# Altium integrated library NSC Analog.IntLib: 143 symbols (part 2 of 4)
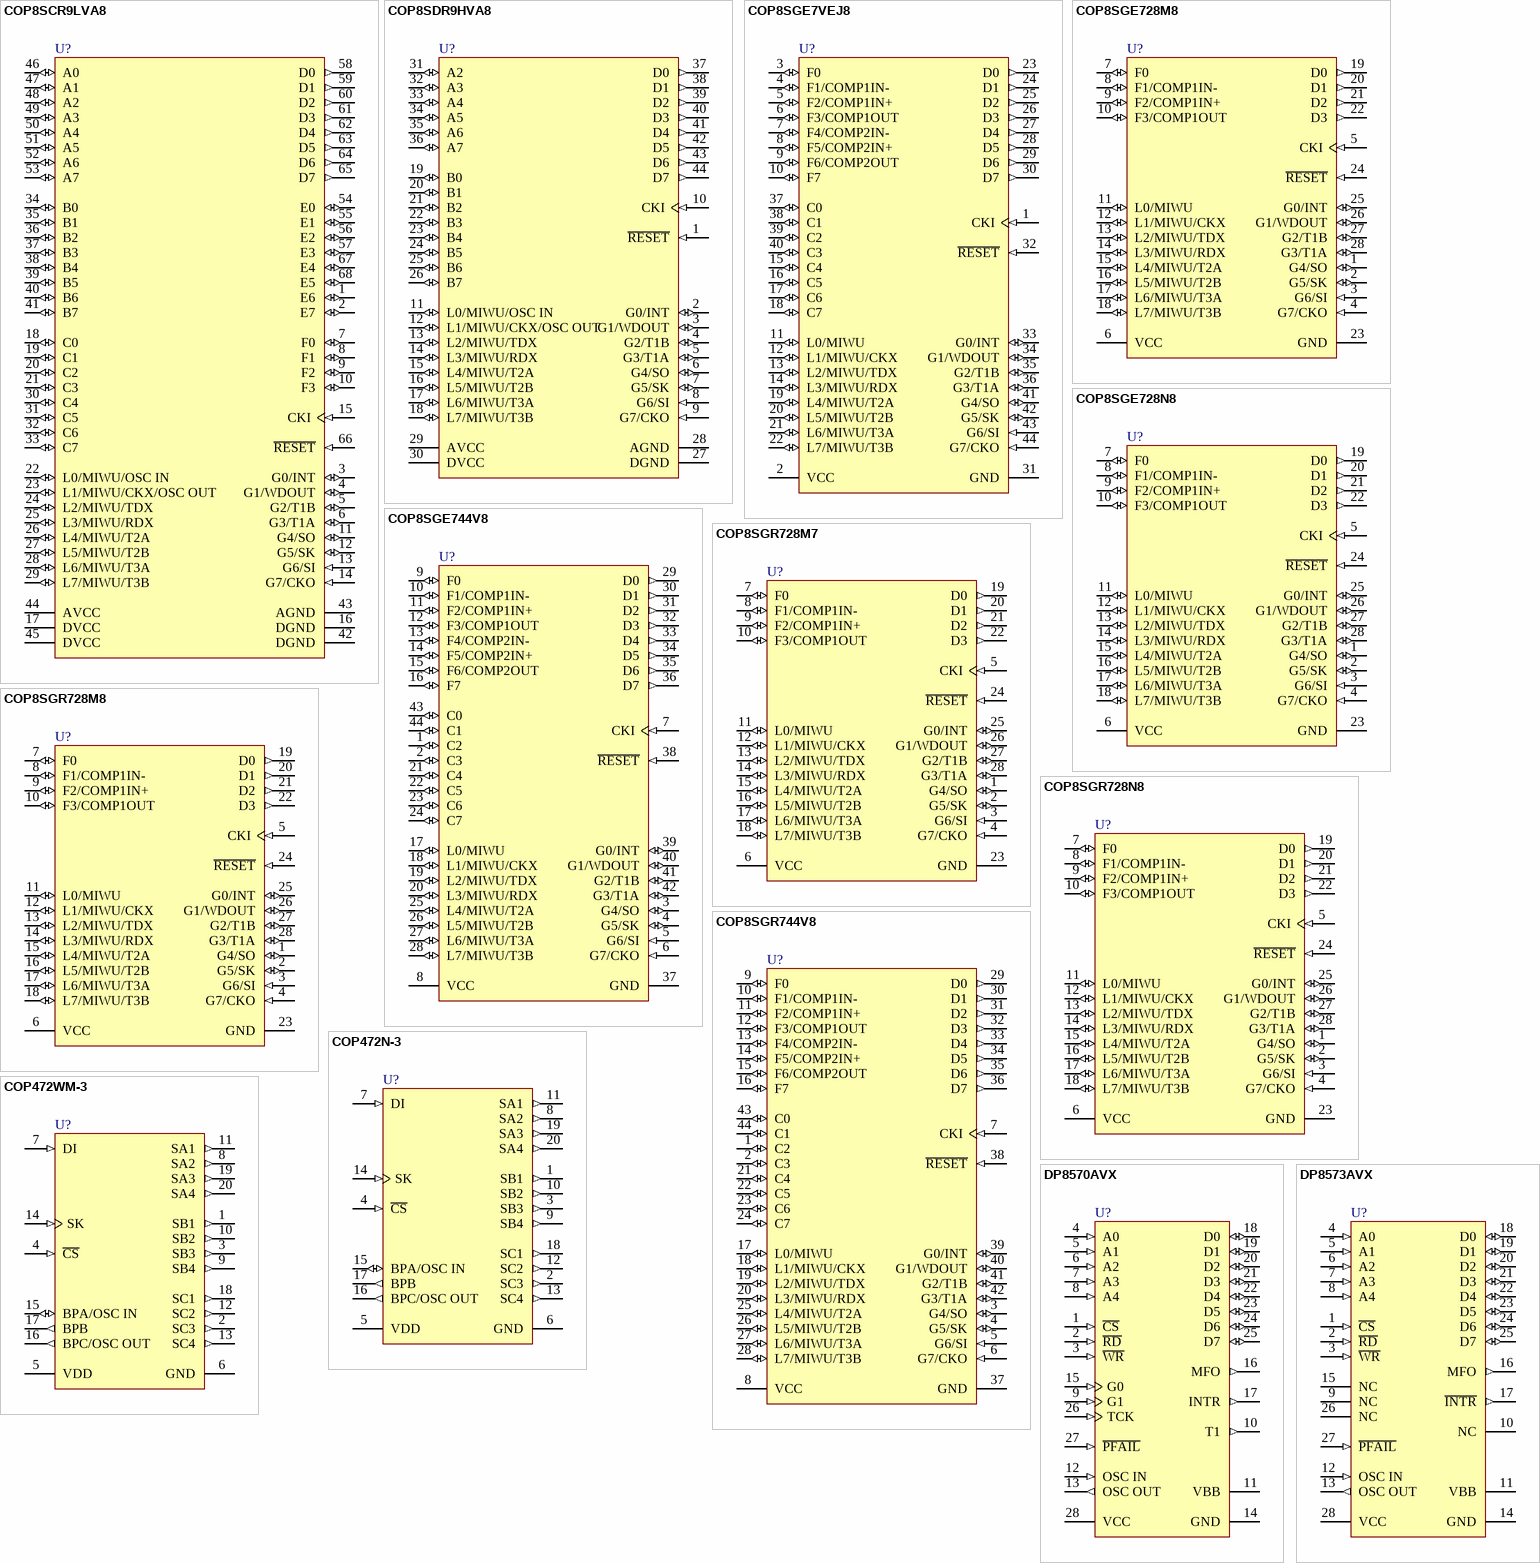
[diagram p8: symbols COP8SCR9LVA8 to DP8573AVX]

## COP8SGR744V8
designator U?
8-Bit CMOS ROM Based and OTP Microcontrollers with 8k to 32k Memory, Two Comparators and USART; PartNumber: COP8SGR744V8; Manufacturer: National Semiconductor; CompType: Analog IC; PackageTopMarking: NSUZXYYTTE#*COP8SGR744V8; PowerWise: N; Published: 4-Dec-2008; DatasheetVersion: Oct-2001; PackageVersion: revK, Dec-1993; PackageReference: V44A; Publisher: Altium Limited; PackageDescription: Plastic Chip Carrier, Sq, .050in Pitch, 44 Lead; PinCount: 44; DigiKeyPartNumber: COP8SGR744V8-ND; Code_IPC: PLCC-44; ComponentLink1Description: COP8SGR7 Datasheet; ComponentLink1URL: http://www.national.com/ds.cgi/CO/COP8SGR7.pdf; ComponentLink2Description: COP8SGR7 Web Page; ComponentLink2URL: http://www.national.com/pf/CO/COP8SGR7.html; ComponentLink3Description: V44A package page; ComponentLink3URL: http://www.national.com/packaging/folders/v44a.html
footprint V44A_N (Leaded Chip Carrier, 44-Leads, Body 16.6x16.6mm, Pitch 1.27mm, IPC Medium Density)
footprint V44A_L (Leaded Chip Carrier, 44-Leads, Body 16.6x16.6mm, Pitch 1.27mm, IPC High Density)
footprint V44A_M (Leaded Chip Carrier, 44-Leads, Body 16.6x16.6mm, Pitch 1.27mm, IPC Low Density)
pins: 1 C2 (io), 2 C3 (io), 3 G4/SO (io), 4 G5/SK (io), 5 G6/SI (in), 6 G7/CKO (in), 7 CKI (in), 8 VCC (power), 9 F0 (io), 10 F1/COMP1IN- (io), 11 F2/COMP1IN+ (io), 12 F3/COMP1OUT (io), 13 F4/COMP2IN- (io), 14 F5/COMP2IN+ (io), 15 F6/COMP2OUT (io), 16 F7 (io), 17 L0/MIWU (io), 18 L1/MIWU/CKX (io), 19 L2/MIWU/TDX (io), 20 L3/MIWU/RDX (io), 21 C4 (io), 22 C5 (io), 23 C6 (io), 24 C7 (io), 25 L4/MIWU/T2A (io), 26 L5/MIWU/T2B (io), 27 L6/MIWU/T3A (io), 28 L7/MIWU/T3B (io), 29 D0 (out), 30 D1 (out), 31 D2 (out), 32 D3 (out), 33 D4 (out), 34 D5 (out), 35 D6 (out), 36 D7 (out), 37 GND (power), 38 ~{RESET} (in), 39 G0/INT (io), 40 G1/WDOUT (io), 41 G2/T1B (io), 42 G3/T1A (io), 43 C0 (io), 44 C1 (io)

## COP472N-3
designator U?
Liquid Crystal Display Controller; PartNumber: COP472N-3; Manufacturer: National Semiconductor; CompType: Analog IC; PackageTopMarking: NSUZXYYTTE#*COP472N-3; PowerWise: N; Published: 4-Dec-2008; DatasheetVersion: Jul-1995; PackageVersion: revG, Nov-1984; PackageReference: N20A; Publisher: Altium Limited; PackageDescription: Molded Dip (N) 20 Lead; PinCount: 20; DigiKeyPartNumber: COP472N-3-ND; Code_JEDEC: MS-001-AD; ComponentLink1Description: COP472-3 Datasheet; ComponentLink1URL: http://www.national.com/ds.cgi/CO/COP472-3.pdf; ComponentLink2Description: COP472-3 Web Page; ComponentLink2URL: http://www.national.com/pf/CO/COP472-3.html; ComponentLink3Description: N20A package page; ComponentLink3URL: http://www.national.com/packaging/folders/n20a.html
footprint N20A (DIP, 20-Leads, Row Spacing 7.62mm, Pitch 2.54mm, Body 26.07x6.6mm)
pins: 1 SB1 (out), 2 SC3 (out), 3 SB3 (out), 4 ~{CS} (in), 5 VDD (power), 6 GND (power), 7 DI (in), 8 SA2 (out), 9 SB4 (out), 10 SB2 (out), 11 SA1 (out), 12 SC2 (out), 13 SC4 (out), 14 SK (in), 15 BPA/OSC IN (io), 16 BPC/OSC OUT (out), 17 BPB (out), 18 SC1 (out), 19 SA3 (out), 20 SA4 (out)

## COP472WM-3
designator U?
Liquid Crystal Display Controller; PartNumber: COP472WM-3; Manufacturer: National Semiconductor; CompType: Analog IC; PackageTopMarking: NSUZXYTT*COP472WM-3; PowerWise: N; Published: 4-Dec-2008; DatasheetVersion: Jul-1995; PackageVersion: revG, Jan-1996; PackageReference: M20B; Publisher: Altium Limited; PackageDescription: Molded Package, S0, .300in Wide, 20 Lead; PinCount: 20; DigiKeyPartNumber: COP472WM-3-ND; Code_JEDEC: MS-013-AC; Code_IPC: SOIC127P1030-20; ComponentLink1Description: COP472-3 Datasheet; ComponentLink1URL: http://www.national.com/ds.cgi/CO/COP472-3.pdf; ComponentLink2Description: COP472-3 Web Page; ComponentLink2URL: http://www.national.com/pf/CO/COP472-3.html; ComponentLink3Description: M20B package page; ComponentLink3URL: http://www.national.com/packaging/folders/m20b.html
footprint M20B_N (SOIC, 20-Leads, Body 12.8x7.5mm, Pitch 1.27mm, IPC Medium Density)
footprint M20B_L (SOIC, 20-Leads, Body 12.8x7.5mm, Pitch 1.27mm, IPC High Density)
footprint M20B_M (SOIC, 20-Leads, Body 12.8x7.5mm, Pitch 1.27mm, IPC Low Density)
pins: 1 SB1 (out), 2 SC3 (out), 3 SB3 (out), 4 ~{CS} (in), 5 VDD (power), 6 GND (power), 7 DI (in), 8 SA2 (out), 9 SB4 (out), 10 SB2 (out), 11 SA1 (out), 12 SC2 (out), 13 SC4 (out), 14 SK (in), 15 BPA/OSC IN (io), 16 BPC/OSC OUT (out), 17 BPB (out), 18 SC1 (out), 19 SA3 (out), 20 SA4 (out)

## DP8570AVX
designator U?
Timer Clock Peripheral (TCP); PartNumber: DP8570AVX; Manufacturer: National Semiconductor; CompType: Analog IC; PackageTopMarking: NSUZXYYTT*DP8570AV; Published: 4-Dec-2008; DatasheetVersion: May-1993; PackageVersion: revK, Dec-1993; PackageReference: V28A; Publisher: Altium Limited; PackageDescription: Plastic Chip Carrier, Sq., .050in Pitch, 28 Lead; PinCount: 28; DigiKeyPartNumber: DP8570AVX-ND; Code_IPC: PLCC-28; ComponentLink1Description: DP8570A Datasheet; ComponentLink1URL: http://www.national.com/ds.cgi/DP/DP8570A.pdf; ComponentLink2Description: DP8570A Web Page; ComponentLink2URL: http://www.national.com/pf/DP/DP8570A.html; ComponentLink3Description: V28A package page; ComponentLink3URL: http://www.national.com/packaging/folders/v28a.html
footprint V28A_N (Leaded Chip Carrier, 28-Leads, Body 11.5x11.5mm, Pitch 1.27mm, IPC Medium Density)
footprint V28A_L (Leaded Chip Carrier, 28-Leads, Body 11.5x11.5mm, Pitch 1.27mm, IPC High Density)
footprint V28A_M (Leaded Chip Carrier, 28-Leads, Body 11.5x11.5mm, Pitch 1.27mm, IPC Low Density)
pins: 1 ~{CS} (in), 2 ~{RD} (in), 3 ~{WR} (in), 4 A0 (in), 5 A1 (in), 6 A2 (in), 7 A3 (in), 8 A4 (in), 9 G1 (in), 10 T1 (out), 11 VBB (power), 12 OSC IN (in), 13 OSC OUT (out), 14 GND (power), 15 G0 (in), 16 MFO (out), 17 INTR (out), 18 D0 (io), 19 D1 (io), 20 D2 (io), 21 D3 (io), 22 D4 (io), 23 D5 (io), 24 D6 (io), 25 D7 (io), 26 TCK (in), 27 ~{PFAIL} (in), 28 VCC (power)

## DP8573AVX
designator U?
Real Time Clock (RTC); PartNumber: DP8573AVX; Manufacturer: National Semiconductor; CompType: Analog IC; PackageTopMarking: NSUZXYYTT*DP8573AV; Published: 4-Dec-2008; DatasheetVersion: May-1993; PackageVersion: revK, Dec-1993; PackageReference: V28A; Publisher: Altium Limited; PackageDescription: Plastic Chip Carrier, Sq., .050in Pitch, 28 Lead; PinCount: 28; DigiKeyPartNumber: DP8573AVX-ND; Code_IPC: PLCC-28; ComponentLink1Description: DP8573A Datasheet; ComponentLink1URL: http://www.national.com/ds.cgi/DP/DP8573A.pdf; ComponentLink2Description: DP8573A Web Page; ComponentLink2URL: http://www.national.com/pf/DP/DP8573A.html; ComponentLink3Description: V28A package page; ComponentLink3URL: http://www.national.com/packaging/folders/v28a.html
footprint V28A_N (Leaded Chip Carrier, 28-Leads, Body 11.5x11.5mm, Pitch 1.27mm, IPC Medium Density)
footprint V28A_L (Leaded Chip Carrier, 28-Leads, Body 11.5x11.5mm, Pitch 1.27mm, IPC High Density)
footprint V28A_M (Leaded Chip Carrier, 28-Leads, Body 11.5x11.5mm, Pitch 1.27mm, IPC Low Density)
pins: 1 ~{CS} (in), 2 ~{RD} (in), 3 ~{WR} (in), 4 A0 (in), 5 A1 (in), 6 A2 (in), 7 A3 (in), 8 A4 (in), 9 NC, 10 NC, 11 VBB (power), 12 OSC IN (in), 13 OSC OUT (out), 14 GND (power), 15 NC, 16 MFO (out), 17 ~{INTR} (out), 18 D0 (io), 19 D1 (io), 20 D2 (io), 21 D3 (io), 22 D4 (io), 23 D5 (io), 24 D6 (io), 25 D7 (io), 26 NC, 27 ~{PFAIL} (in), 28 VCC (power)

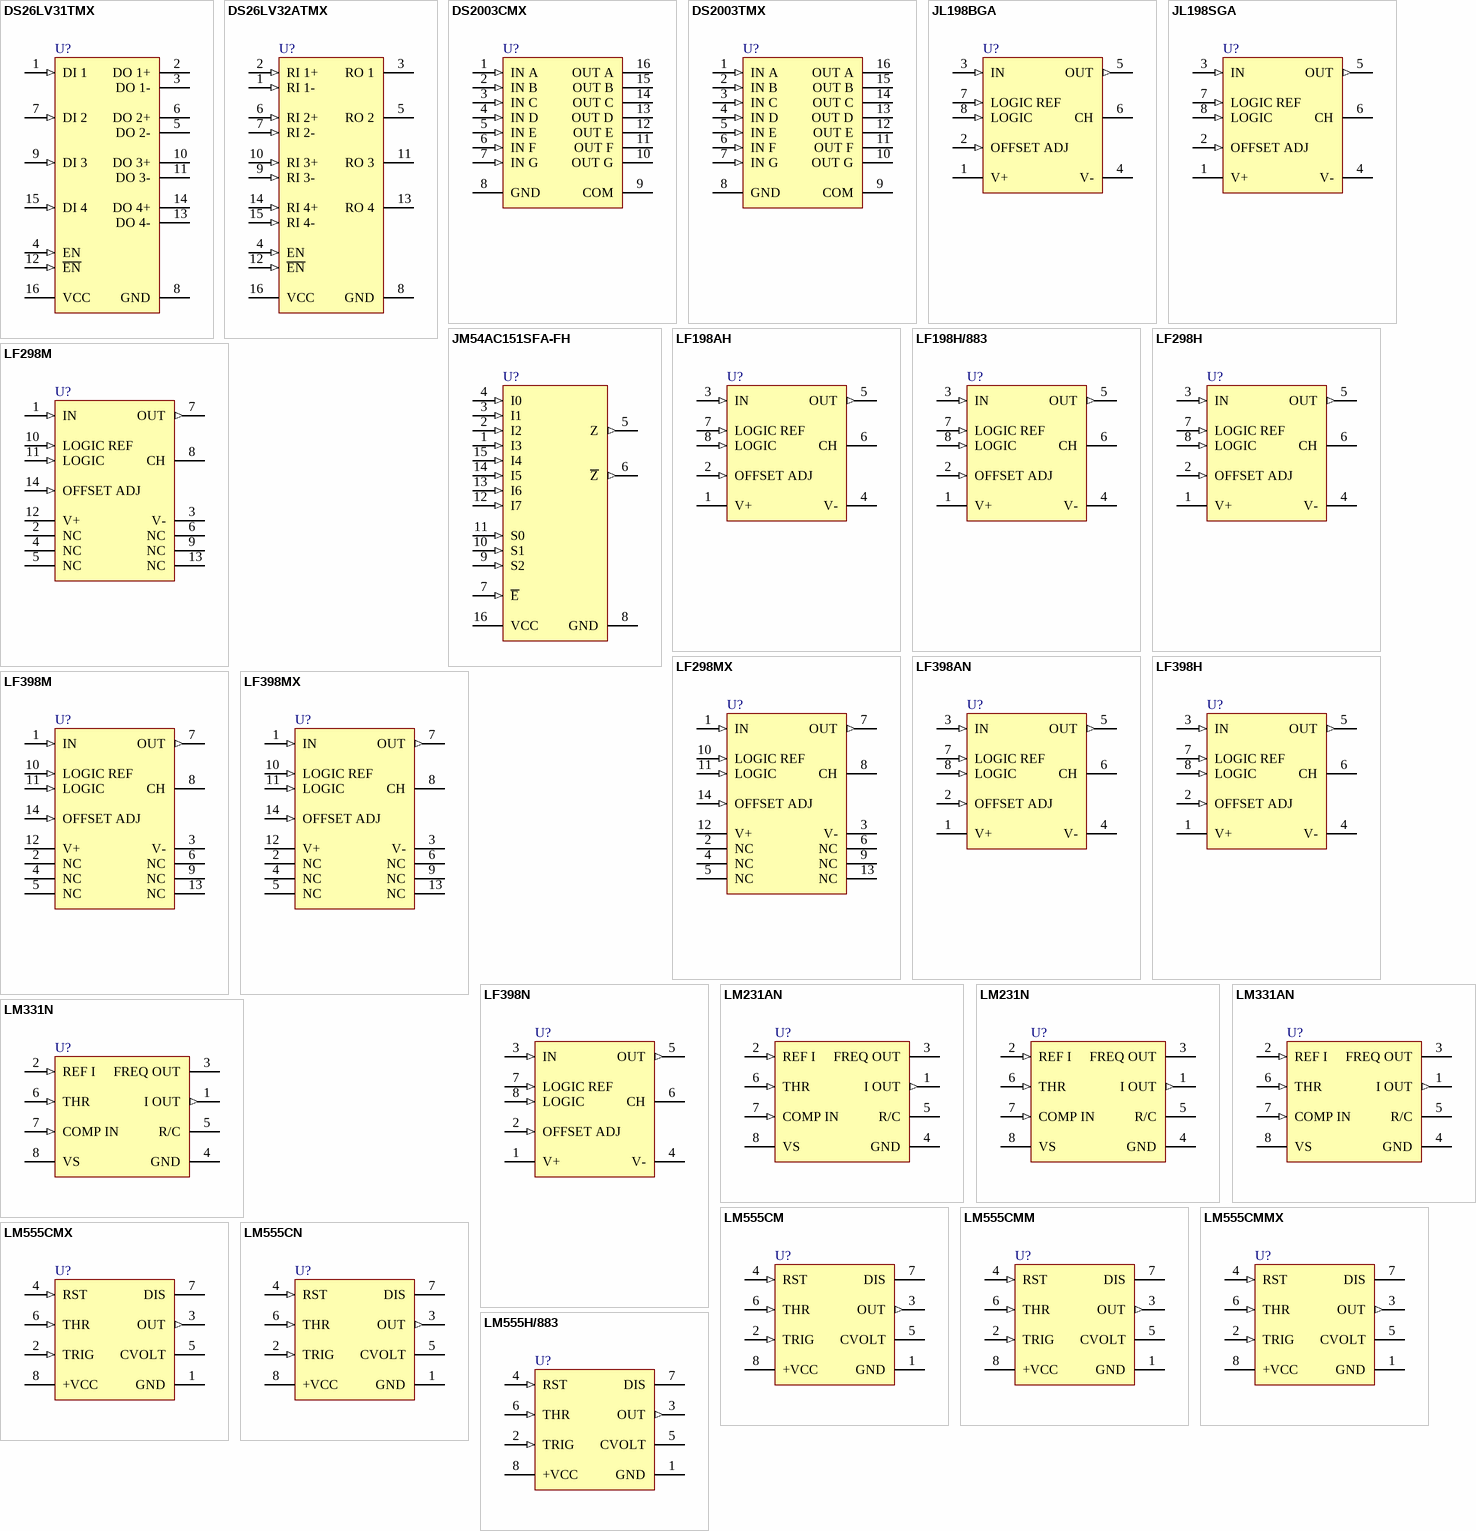
[diagram p3: symbols DS26LV31TMX to LM555H/883]

## DS26LV31TMX
designator U?
3V Enhanced CMOS Quad Differential Line Driver; PartNumber: DS26LV31TMX; Manufacturer: National Semiconductor; CompType: Analog IC; PackageTopMarking: NSUZXYTT*DS26LV31*TM; Published: 4-Dec-2008; DatasheetVersion: Mar-1999; PackageVersion: revJ, Aug-1995; PackageReference: M16A; Publisher: Altium Limited; PackageDescription: Molded Package, SO, .150in Wide, 16 Lead; PinCount: 16; DigiKeyPartNumber: DS26LV31TMX-ND; Code_JEDEC: MS-012-AC; Code_IPC: SOIC127P600-16; ComponentLink1Description: DS26LV31T Datasheet; ComponentLink1URL: http://www.national.com/ds.cgi/DS/DS26LV31T.pdf; ComponentLink2Description: DS26LV31T Web Page; ComponentLink2URL: http://www.national.com/pf/DS/DS26LV31T.html; ComponentLink3Description: M16A package page; ComponentLink3URL: http://www.national.com/packaging/folders/m16a.html
footprint M16A_N (SOIC, 16-Leads, Body 9.9x3.9mm, Pitch 1.27mm, IPC Medium Density)
footprint M16A_L (SOIC, 16-Leads, Body 9.9x3.9mm, Pitch 1.27mm, IPC High Density)
footprint M16A_M (SOIC, 16-Leads, Body 9.9x3.9mm, Pitch 1.27mm, IPC Low Density)
pins: 1 DI 1 (in), 2 DO 1+ (hiz), 3 DO 1- (hiz), 4 EN (in), 5 DO 2- (hiz), 6 DO 2+ (hiz), 7 DI 2 (in), 8 GND (power), 9 DI 3 (in), 10 DO 3+ (hiz), 11 DO 3- (hiz), 12 ~{EN} (in), 13 DO 4- (hiz), 14 DO 4+ (hiz), 15 DI 4 (in), 16 VCC (power)

## DS26LV32ATMX
designator U?
3V Enhanced CMOS Quad Differential Line Receiver; PartNumber: DS26LV32ATMX; Manufacturer: National Semiconductor; CompType: Analog IC; PackageTopMarking: NSUZXYTT*DS26LV32A*TM; Published: 4-Dec-2008; DatasheetVersion: Mar-2000; PackageVersion: revJ, Aug-1995; PackageReference: M16A; Publisher: Altium Limited; PackageDescription: Molded Package, SO, .150in Wide, 16 Lead; PinCount: 16; DigiKeyPartNumber: DS26LV32ATMX-ND; Code_JEDEC: MS-012-AC; Code_IPC: SOIC127P600-16; ComponentLink1Description: DS26LV32AT Datasheet; ComponentLink1URL: http://www.national.com/ds.cgi/DS/DS26LV32AT.pdf; ComponentLink2Description: DS26LV32AT Web Page; ComponentLink2URL: http://www.national.com/pf/DS/DS26LV32AT.html; ComponentLink3Description: M16A package page; ComponentLink3URL: http://www.national.com/packaging/folders/m16a.html
footprint M16A_N (SOIC, 16-Leads, Body 9.9x3.9mm, Pitch 1.27mm, IPC Medium Density)
footprint M16A_L (SOIC, 16-Leads, Body 9.9x3.9mm, Pitch 1.27mm, IPC High Density)
footprint M16A_M (SOIC, 16-Leads, Body 9.9x3.9mm, Pitch 1.27mm, IPC Low Density)
pins: 1 RI 1- (in), 2 RI 1+ (in), 3 RO 1 (hiz), 4 EN (in), 5 RO 2 (hiz), 6 RI 2+ (in), 7 RI 2- (in), 8 GND (power), 9 RI 3- (in), 10 RI 3+ (in), 11 RO 3 (hiz), 12 ~{EN} (in), 13 RO 4 (hiz), 14 RI 4+ (in), 15 RI 4- (in), 16 VCC (power)

## DS2003CMX
designator U?
High Current/Voltage Darlington Drivers; PartNumber: DS2003CMX; Manufacturer: National Semiconductor; CompType: Analog IC; PackageTopMarking: NSUZXYTT*DS2003CM; Published: 4-Dec-2008; DatasheetVersion: Mar-2005; PackageVersion: revJ, Aug-1995; PackageReference: M16A; Publisher: Altium Limited; PackageDescription: Molded Package, SO, .150in Wide, 16 Lead; PinCount: 16; DigiKeyPartNumber: DS2003CMXCT-ND; Code_JEDEC: MS-012-AC; Code_IPC: SOIC127P600-16; ComponentLink1Description: DS2003 Datasheet; ComponentLink1URL: http://www.national.com/ds.cgi/DS/DS2003.pdf; ComponentLink2Description: DS2003 Web Page; ComponentLink2URL: http://www.national.com/pf/DS/DS2003.html; ComponentLink3Description: M16A package page; ComponentLink3URL: http://www.national.com/packaging/folders/m16a.html
footprint M16A_N (SOIC, 16-Leads, Body 9.9x3.9mm, Pitch 1.27mm, IPC Medium Density)
footprint M16A_L (SOIC, 16-Leads, Body 9.9x3.9mm, Pitch 1.27mm, IPC High Density)
footprint M16A_M (SOIC, 16-Leads, Body 9.9x3.9mm, Pitch 1.27mm, IPC Low Density)
pins: 1 IN A (in), 2 IN B (in), 3 IN C (in), 4 IN D (in), 5 IN E (in), 6 IN F (in), 7 IN G (in), 8 GND (power), 9 COM, 10 OUT G (oc), 11 OUT F (oc), 12 OUT E (oc), 13 OUT D (oc), 14 OUT C (oc), 15 OUT B (oc), 16 OUT A (oc)

## DS2003TMX
designator U?
High Current/Voltage Darlington Drivers; PartNumber: DS2003TMX; Manufacturer: National Semiconductor; CompType: Analog IC; PackageTopMarking: NSUZXYTT*DS2003TM; Published: 4-Dec-2008; DatasheetVersion: Mar-2005; PackageVersion: revJ, Aug-1995; PackageReference: M16A; Publisher: Altium Limited; PackageDescription: Molded Package, SO, .150in Wide, 16 Lead; PinCount: 16; DigiKeyPartNumber: DS2003TMX-ND; Code_JEDEC: MS-012-AC; Code_IPC: SOIC127P600-16; ComponentLink1Description: DS2003 Datasheet; ComponentLink1URL: http://www.national.com/ds.cgi/DS/DS2003.pdf; ComponentLink2Description: DS2003 Web Page; ComponentLink2URL: http://www.national.com/pf/DS/DS2003.html; ComponentLink3Description: M16A package page; ComponentLink3URL: http://www.national.com/packaging/folders/m16a.html
footprint M16A_N (SOIC, 16-Leads, Body 9.9x3.9mm, Pitch 1.27mm, IPC Medium Density)
footprint M16A_L (SOIC, 16-Leads, Body 9.9x3.9mm, Pitch 1.27mm, IPC High Density)
footprint M16A_M (SOIC, 16-Leads, Body 9.9x3.9mm, Pitch 1.27mm, IPC Low Density)
pins: 1 IN A (in), 2 IN B (in), 3 IN C (in), 4 IN D (in), 5 IN E (in), 6 IN F (in), 7 IN G (in), 8 GND (power), 9 COM, 10 OUT G (oc), 11 OUT F (oc), 12 OUT E (oc), 13 OUT D (oc), 14 OUT C (oc), 15 OUT B (oc), 16 OUT A (oc)

## JL198BGA
designator U?
Monolithic Sample and Hold Circuit; PartNumber: JL198BGA; Manufacturer: National Semiconductor; CompType: Analog IC; PackageTopMarking: NS ZSSXXYYA 27014 Q*JM38510/12501BGA; PowerWise: N; MilaeroCode: CXX; Published: 29-May-2009; DatasheetVersion: Jul-2000; PackageVersion: revF, Jun-1995; PackageReference: H08C; Publisher: Altium Limited; PackageDescription: Metal Can, TO-99, 8 Lead, .200 Dia., P.C.; RoHS: N; PinCount: 8; Code_JEDEC: TO-99; ComponentLink1Description: LF198 Datasheet; ComponentLink1URL: http://www.national.com/ds/LF/LF198.pdf; ComponentLink2Description: LF198 Web Page; ComponentLink2URL: http://www.national.com/pf/LF/LF198.html; ComponentLink3Description: H08C Package Page; ComponentLink3URL: http://www.national.com/packaging/folders/h08c.html
footprint H08C (Can; 8 Leads; Pin Circle Dia. 5.08 mm; Lead Dia. 0.48 mm (max))
pins: 1 V+ (power), 2 OFFSET ADJ (in), 3 IN (in), 4 V- (power), 5 OUT (out), 6 CH, 7 LOGIC REF (in), 8 LOGIC (in)

## JL198SGA
designator U?
Monolithic Sample and Hold Circuit; PartNumber: JL198SGA; Manufacturer: National Semiconductor; CompType: Analog IC; PackageTopMarking: NS ZSSXXYYA*JM38510/12501SGA; PowerWise: N; MilaeroCode: DXX; Published: 29-May-2009; DatasheetVersion: Jul-2000; PackageVersion: revF, Jun-1995; PackageReference: H08C; Publisher: Altium Limited; PackageDescription: Metal Can, TO-99, 8 Lead, .200 Dia., P.C.; RoHS: N; PinCount: 8; Code_JEDEC: TO-99; ComponentLink1Description: LF198 Datasheet; ComponentLink1URL: http://www.national.com/ds/LF/LF198.pdf; ComponentLink2Description: LF198 Web Page; ComponentLink2URL: http://www.national.com/pf/LF/LF198.html; ComponentLink3Description: H08C Package Page; ComponentLink3URL: http://www.national.com/packaging/folders/h08c.html
footprint H08C (Can; 8 Leads; Pin Circle Dia. 5.08 mm; Lead Dia. 0.48 mm (max))
pins: 1 V+ (power), 2 OFFSET ADJ (in), 3 IN (in), 4 V- (power), 5 OUT (out), 6 CH, 7 LOGIC REF (in), 8 LOGIC (in)

## JM54AC151SFA-FH
designator U?
8-Input Multiplexer; PartNumber: JM54AC151SFA-FH; Manufacturer: National Semiconductor; CompType: Analog IC; PackageTopMarking: NSZSSXXYYA*27014 Q*JM38510F*76201SFA; Published: 4-Dec-2008; DatasheetVersion: Jul-2003; PackageVersion: revT, Jul-2005; PackageReference: W16A; Publisher: Altium Limited; PackageDescription: Cerpack, .390 x .250 x .074in Body, 16 Lead, .050in Pitch; PinCount: 16; Code_JEDEC: MO-092-AC; ComponentLink1Description: 54AC151 Datasheet; ComponentLink1URL: http://www.national.com/ds.cgi/54/54AC151.pdf; ComponentLink2Description: 54AC151 Web Page; ComponentLink2URL: http://www.national.com/pf/54/54AC151.html; ComponentLink3Description: W16A package page; ComponentLink3URL: http://www.national.com/packaging/folders/w16a.html
footprint W16A (DFP; 16 Leads; Body 9.9 x 7.6 mm (LxW max); Pitch 1.27 mm)
pins: 1 I3 (in), 2 I2 (in), 3 I1 (in), 4 I0 (in), 5 Z (out), 6 ~{Z} (out), 7 ~{E} (in), 8 GND (power), 9 S2 (in), 10 S1 (in), 11 S0 (in), 12 I7 (in), 13 I6 (in), 14 I5 (in), 15 I4 (in), 16 VCC (power)

## LF198AH
designator U?
Monolithic Sample-and-Hold Circuits; PartNumber: LF198AH; Manufacturer: National Semiconductor; CompType: Analog IC; PackageTopMarking: NSZXYTTE# LF198AH; PowerWise: N; Published: 4-Dec-2008; DatasheetVersion: Jul-2000; PackageVersion: revF, Jun-1995; PackageReference: H08C; Publisher: Altium Limited; PackageDescription: Metal Can, TO-99, 8 Lead, .200 Dia., P.C.; PinCount: 8; Code_JEDEC: TO-99; ComponentLink1Description: LF198 Datasheet; ComponentLink1URL: http://www.national.com/ds.cgi/LF/LF198.pdf; ComponentLink2Description: LF198 Web Page; ComponentLink2URL: http://www.national.com/pf/LF/LF198.html; ComponentLink3Description: H08C package page; ComponentLink3URL: http://www.national.com/packaging/folders/h08c.html
footprint H08C (Can; 8 Leads; Pin Circle Dia. 5.08 mm; Lead Dia. 0.48 mm (max))
pins: 1 V+ (power), 2 OFFSET ADJ (in), 3 IN (in), 4 V- (power), 5 OUT (out), 6 CH, 7 LOGIC REF (in), 8 LOGIC (in)

## LF198H/883
designator U?
Monolithic Sample-and-Hold Circuits; PartNumber: LF198H/883; Manufacturer: National Semiconductor; CompType: Analog IC; PackageTopMarking: NSZSSXXYYA LF198H/883 Q*5962-8760801GA; PowerWise: N; Published: 4-Dec-2008; DatasheetVersion: Jul-2000; PackageVersion: revF, Jun-1995; PackageReference: H08C; Publisher: Altium Limited; PackageDescription: Metal Can, TO-99, 8 Lead, .200 Dia., P.C.; PinCount: 8; Code_JEDEC: TO-99; ComponentLink1Description: LF198 Datasheet; ComponentLink1URL: http://www.national.com/ds.cgi/LF/LF198.pdf; ComponentLink2Description: LF198 Web Page; ComponentLink2URL: http://www.national.com/pf/LF/LF198.html; ComponentLink3Description: H08C package page; ComponentLink3URL: http://www.national.com/packaging/folders/h08c.html
footprint H08C (Can; 8 Leads; Pin Circle Dia. 5.08 mm; Lead Dia. 0.48 mm (max))
pins: 1 V+ (power), 2 OFFSET ADJ (in), 3 IN (in), 4 V- (power), 5 OUT (out), 6 CH, 7 LOGIC REF (in), 8 LOGIC (in)

## LF298H
designator U?
Monolithic Sample-and-Hold Circuits; PartNumber: LF298H; Manufacturer: National Semiconductor; CompType: Analog IC; PackageTopMarking: NSZXYTTE# LF298H; PowerWise: N; Published: 4-Dec-2008; DatasheetVersion: Jul-2000; PackageVersion: revF, Jun-1995; PackageReference: H08C; Publisher: Altium Limited; PackageDescription: Metal Can, TO-99, 8 Lead, .200 Dia., P.C.; PinCount: 8; Code_JEDEC: TO-99; ComponentLink1Description: LF298 Datasheet; ComponentLink1URL: http://www.national.com/ds.cgi/LF/LF298.pdf; ComponentLink2Description: LF298 Web Page; ComponentLink2URL: http://www.national.com/pf/LF/LF298.html; ComponentLink3Description: H08C package page; ComponentLink3URL: http://www.national.com/packaging/folders/h08c.html
footprint H08C (Can; 8 Leads; Pin Circle Dia. 5.08 mm; Lead Dia. 0.48 mm (max))
pins: 1 V+ (power), 2 OFFSET ADJ (in), 3 IN (in), 4 V- (power), 5 OUT (out), 6 CH, 7 LOGIC REF (in), 8 LOGIC (in)

## LF298M
designator U?
Monolithic Sample-and-Hold Circuits; PartNumber: LF298M; Manufacturer: National Semiconductor; CompType: Analog IC; PackageTopMarking: NSUZXYTT*LF298M; PowerWise: N; Published: 4-Dec-2008; DatasheetVersion: Jul-2000; PackageVersion: revJ, Jan-1996; PackageReference: M14A; Publisher: Altium Limited; PackageDescription: Molded Package S.O., .150in Wide, 14 Lead; PinCount: 14; DigiKeyPartNumber: LF298M-ND; Code_JEDEC: MS-012AB; Code_IPC: SOIC127P600-14; ComponentLink1Description: LF298 Datasheet; ComponentLink1URL: http://www.national.com/ds.cgi/LF/LF298.pdf; ComponentLink2Description: LF298 Web Page; ComponentLink2URL: http://www.national.com/pf/LF/LF298.html; ComponentLink3Description: M14A package page; ComponentLink3URL: http://www.national.com/packaging/folders/m14a.html
footprint M14A_N (SOIC, 14-Leads, Body 8.6x3.9mm, Pitch 1.27mm, IPC Medium Density)
footprint M14A_L (SOIC, 14-Leads, Body 8.6x3.9mm, Pitch 1.27mm, IPC High Density)
footprint M14A_M (SOIC, 14-Leads, Body 8.6x3.9mm, Pitch 1.27mm, IPC Low Density)
pins: 1 IN (in), 2 NC, 3 V- (power), 4 NC, 5 NC, 6 NC, 7 OUT (out), 8 CH, 9 NC, 10 LOGIC REF (in), 11 LOGIC (in), 12 V+ (power), 13 NC, 14 OFFSET ADJ (in)

## LF298MX
designator U?
Monolithic Sample-and-Hold Circuits; PartNumber: LF298MX; Manufacturer: National Semiconductor; CompType: Analog IC; PackageTopMarking: NSUZXYTT*LF298M; Published: 4-Dec-2008; DatasheetVersion: Jul-2000; PackageVersion: revJ, Jan-1996; PackageReference: M14A; Publisher: Altium Limited; PackageDescription: Molded Package S.O., .150in Wide, 14 Lead; PinCount: 14; DigiKeyPartNumber: LF298MX-ND; Code_JEDEC: MS-012AB; Code_IPC: SOIC127P600-14; ComponentLink1Description: LF298 Datasheet; ComponentLink1URL: http://www.national.com/ds.cgi/LF/LF298.pdf; ComponentLink2Description: LF298 Web Page; ComponentLink2URL: http://www.national.com/pf/LF/LF298.html; ComponentLink3Description: M14A package page; ComponentLink3URL: http://www.national.com/packaging/folders/m14a.html
footprint M14A_N (SOIC, 14-Leads, Body 8.6x3.9mm, Pitch 1.27mm, IPC Medium Density)
footprint M14A_L (SOIC, 14-Leads, Body 8.6x3.9mm, Pitch 1.27mm, IPC High Density)
footprint M14A_M (SOIC, 14-Leads, Body 8.6x3.9mm, Pitch 1.27mm, IPC Low Density)
pins: 1 IN (in), 2 NC, 3 V- (power), 4 NC, 5 NC, 6 NC, 7 OUT (out), 8 CH, 9 NC, 10 LOGIC REF (in), 11 LOGIC (in), 12 V+ (power), 13 NC, 14 OFFSET ADJ (in)

## LF398AN
designator U?
Monolithic Sample-and-Hold Circuits; PartNumber: LF398AN; Manufacturer: National Semiconductor; CompType: Analog IC; PackageTopMarking: NSUZXYTT*LF*398AN; PowerWise: N; Published: 4-Dec-2008; DatasheetVersion: Jul-2000; PackageVersion: revG, May-2006; PackageReference: N08E; Publisher: Altium Limited; PackageDescription: MDIP, .365 x .250 x .130in, 8 Lead, .100in Pitch; PinCount: 8; DigiKeyPartNumber: LF398AN-ND; Code_JEDEC: MS-001-BA; ComponentLink1Description: LF398 Datasheet; ComponentLink1URL: http://www.national.com/ds.cgi/LF/LF398.pdf; ComponentLink2Description: LF398 Web Page; ComponentLink2URL: http://www.national.com/pf/LF/LF398.html; ComponentLink3Description: N08E package page; ComponentLink3URL: http://www.national.com/packaging/folders/n08e.html
footprint N08E (DIP, 8-Leads, Row Spacing 7.62mm, Pitch 2.54mm, Body 9.91x6.35mm)
pins: 1 V+ (power), 2 OFFSET ADJ (in), 3 IN (in), 4 V- (power), 5 OUT (out), 6 CH, 7 LOGIC REF (in), 8 LOGIC (in)

## LF398H
designator U?
Monolithic Sample and Hold Circuit; PartNumber: LF398H; Manufacturer: National Semiconductor; CompType: Analog IC; PackageTopMarking: NSZXYTTE# LF398H; PowerWise: N; MilaeroCode: 2MC; Published: 29-May-2009; DatasheetVersion: Jul-2000; PackageVersion: revF, Jun-1995; PackageReference: H08C; Publisher: Altium Limited; PackageDescription: Metal Can, TO-99, 8 Lead, .200 Dia., P.C.; RoHS: O; PinCount: 8; DigiKeyPartNumber: LF398H-ND; Code_JEDEC: TO-99; ComponentLink1Description: LF398 Datasheet; ComponentLink1URL: http://www.national.com/ds/LF/LF398.pdf; ComponentLink2Description: LF398 Web Page; ComponentLink2URL: http://www.national.com/pf/LF/LF398.html; ComponentLink3Description: H08C Package Page; ComponentLink3URL: http://www.national.com/packaging/folders/h08c.html
footprint H08C (Can; 8 Leads; Pin Circle Dia. 5.08 mm; Lead Dia. 0.48 mm (max))
pins: 1 V+ (power), 2 OFFSET ADJ (in), 3 IN (in), 4 V- (power), 5 OUT (out), 6 CH, 7 LOGIC REF (in), 8 LOGIC (in)

## LF398M
designator U?
Monolithic Sample-and-Hold Circuits; PartNumber: LF398M; Manufacturer: National Semiconductor; CompType: Analog IC; PackageTopMarking: NSUZXYTT*LF398M; PowerWise: N; Published: 4-Dec-2008; DatasheetVersion: Jul-2000; PackageVersion: revJ, Jan-1996; PackageReference: M14A; Publisher: Altium Limited; PackageDescription: Molded Package S.O., .150in Wide, 14 Lead; PinCount: 14; DigiKeyPartNumber: LF398M-ND; Code_JEDEC: MS-012AB; Code_IPC: SOIC127P600-14; ComponentLink1Description: LF398 Datasheet; ComponentLink1URL: http://www.national.com/ds.cgi/LF/LF398.pdf; ComponentLink2Description: LF398 Web Page; ComponentLink2URL: http://www.national.com/pf/LF/LF398.html; ComponentLink3Description: M14A package page; ComponentLink3URL: http://www.national.com/packaging/folders/m14a.html
footprint M14A_N (SOIC, 14-Leads, Body 8.6x3.9mm, Pitch 1.27mm, IPC Medium Density)
footprint M14A_L (SOIC, 14-Leads, Body 8.6x3.9mm, Pitch 1.27mm, IPC High Density)
footprint M14A_M (SOIC, 14-Leads, Body 8.6x3.9mm, Pitch 1.27mm, IPC Low Density)
pins: 1 IN (in), 2 NC, 3 V- (power), 4 NC, 5 NC, 6 NC, 7 OUT (out), 8 CH, 9 NC, 10 LOGIC REF (in), 11 LOGIC (in), 12 V+ (power), 13 NC, 14 OFFSET ADJ (in)

## LF398MX
designator U?
Monolithic Sample-and-Hold Circuits; PartNumber: LF398MX; Manufacturer: National Semiconductor; CompType: Analog IC; PackageTopMarking: NSUZXYTT*LF398M; Published: 4-Dec-2008; DatasheetVersion: Jul-2000; PackageVersion: revJ, Jan-1996; PackageReference: M14A; Publisher: Altium Limited; PackageDescription: Molded Package S.O., .150in Wide, 14 Lead; PinCount: 14; DigiKeyPartNumber: LF398MX-ND; Code_JEDEC: MS-012AB; Code_IPC: SOIC127P600-14; ComponentLink1Description: LF398 Datasheet; ComponentLink1URL: http://www.national.com/ds.cgi/LF/LF398.pdf; ComponentLink2Description: LF398 Web Page; ComponentLink2URL: http://www.national.com/pf/LF/LF398.html; ComponentLink3Description: M14A package page; ComponentLink3URL: http://www.national.com/packaging/folders/m14a.html
footprint M14A_N (SOIC, 14-Leads, Body 8.6x3.9mm, Pitch 1.27mm, IPC Medium Density)
footprint M14A_L (SOIC, 14-Leads, Body 8.6x3.9mm, Pitch 1.27mm, IPC High Density)
footprint M14A_M (SOIC, 14-Leads, Body 8.6x3.9mm, Pitch 1.27mm, IPC Low Density)
pins: 1 IN (in), 2 NC, 3 V- (power), 4 NC, 5 NC, 6 NC, 7 OUT (out), 8 CH, 9 NC, 10 LOGIC REF (in), 11 LOGIC (in), 12 V+ (power), 13 NC, 14 OFFSET ADJ (in)

## LF398N
designator U?
Monolithic Sample-and-Hold Circuits; PartNumber: LF398N; Manufacturer: National Semiconductor; CompType: Analog IC; PackageTopMarking: NSUZXYTT*LF*398N; PowerWise: N; Published: 4-Dec-2008; DatasheetVersion: Jul-2000; PackageVersion: revG, May-2006; PackageReference: N08E; Publisher: Altium Limited; PackageDescription: MDIP, .365 x .250 x .130in, 8 Lead, .100in Pitch; PinCount: 8; DigiKeyPartNumber: LF398N-ND; Code_JEDEC: MS-001-BA; ComponentLink1Description: LF398 Datasheet; ComponentLink1URL: http://www.national.com/ds.cgi/LF/LF398.pdf; ComponentLink2Description: LF398 Web Page; ComponentLink2URL: http://www.national.com/pf/LF/LF398.html; ComponentLink3Description: N08E package page; ComponentLink3URL: http://www.national.com/packaging/folders/n08e.html
footprint N08E (DIP, 8-Leads, Row Spacing 7.62mm, Pitch 2.54mm, Body 9.91x6.35mm)
pins: 1 V+ (power), 2 OFFSET ADJ (in), 3 IN (in), 4 V- (power), 5 OUT (out), 6 CH, 7 LOGIC REF (in), 8 LOGIC (in)

## LM231AN
designator U?
Precision Voltage-to-Frequency Converters; PartNumber: LM231AN; Manufacturer: National Semiconductor; CompType: Analog IC; PackageTopMarking: NSUZXYTT*LM*231AN; PowerWise: N; Published: 4-Dec-2008; DatasheetVersion: Apr-2006; PackageVersion: revG, May-2006; PackageReference: N08E; Publisher: Altium Limited; PackageDescription: MDIP, .365 x .250 x .130in, 8 Lead, .100in Pitch; PinCount: 8; DigiKeyPartNumber: LM231AN-ND; Code_JEDEC: MS-001-BA; ComponentLink1Description: LM231 Datasheet; ComponentLink1URL: http://www.national.com/ds.cgi/LM/LM231.pdf; ComponentLink2Description: LM231 Web Page; ComponentLink2URL: http://www.national.com/pf/LM/LM231.html; ComponentLink3Description: N08E package page; ComponentLink3URL: http://www.national.com/packaging/folders/n08e.html
footprint N08E (DIP, 8-Leads, Row Spacing 7.62mm, Pitch 2.54mm, Body 9.91x6.35mm)
pins: 1 I OUT (out), 2 REF I (in), 3 FREQ OUT (oc), 4 GND (power), 5 R/C, 6 THR (in), 7 COMP IN (in), 8 VS (power)

## LM231N
designator U?
Precision Voltage-to-Frequency Converters; PartNumber: LM231N; Manufacturer: National Semiconductor; CompType: Analog IC; PackageTopMarking: NSUZXYTT*LM*231N; PowerWise: N; Published: 4-Dec-2008; DatasheetVersion: Apr-2006; PackageVersion: revG, May-2006; PackageReference: N08E; Publisher: Altium Limited; PackageDescription: MDIP, .365 x .250 x .130in, 8 Lead, .100in Pitch; PinCount: 8; DigiKeyPartNumber: LM231N-ND; Code_JEDEC: MS-001-BA; ComponentLink1Description: LM231 Datasheet; ComponentLink1URL: http://www.national.com/ds.cgi/LM/LM231.pdf; ComponentLink2Description: LM231 Web Page; ComponentLink2URL: http://www.national.com/pf/LM/LM231.html; ComponentLink3Description: N08E package page; ComponentLink3URL: http://www.national.com/packaging/folders/n08e.html
footprint N08E (DIP, 8-Leads, Row Spacing 7.62mm, Pitch 2.54mm, Body 9.91x6.35mm)
pins: 1 I OUT (out), 2 REF I (in), 3 FREQ OUT (oc), 4 GND (power), 5 R/C, 6 THR (in), 7 COMP IN (in), 8 VS (power)

## LM331AN
designator U?
Precision Voltage-to-Frequency Converters; PartNumber: LM331AN; Manufacturer: National Semiconductor; CompType: Analog IC; PackageTopMarking: NSUZXYTT*LM*331AN; PowerWise: N; Published: 4-Dec-2008; DatasheetVersion: Apr-2006; PackageVersion: revG, May-2006; PackageReference: N08E; Publisher: Altium Limited; PackageDescription: MDIP, .365 x .250 x .130in, 8 Lead, .100in Pitch; PinCount: 8; DigiKeyPartNumber: LM331AN-ND; Code_JEDEC: MS-001-BA; ComponentLink1Description: LM331 Datasheet; ComponentLink1URL: http://www.national.com/ds.cgi/LM/LM331.pdf; ComponentLink2Description: LM331 Web Page; ComponentLink2URL: http://www.national.com/pf/LM/LM331.html; ComponentLink3Description: N08E package page; ComponentLink3URL: http://www.national.com/packaging/folders/n08e.html
footprint N08E (DIP, 8-Leads, Row Spacing 7.62mm, Pitch 2.54mm, Body 9.91x6.35mm)
pins: 1 I OUT (out), 2 REF I (in), 3 FREQ OUT (oc), 4 GND (power), 5 R/C, 6 THR (in), 7 COMP IN (in), 8 VS (power)

## LM331N
designator U?
Precision Voltage-to-Frequency Converters; PartNumber: LM331N; Manufacturer: National Semiconductor; CompType: Analog IC; PackageTopMarking: NSUZXYTT*LM*331N; PowerWise: N; Published: 4-Dec-2008; DatasheetVersion: Apr-2006; PackageVersion: revG, May-2006; PackageReference: N08E; Publisher: Altium Limited; PackageDescription: MDIP, .365 x .250 x .130in, 8 Lead, .100in Pitch; PinCount: 8; DigiKeyPartNumber: LM331N-ND; Code_JEDEC: MS-001-BA; ComponentLink1Description: LM331 Datasheet; ComponentLink1URL: http://www.national.com/ds.cgi/LM/LM331.pdf; ComponentLink2Description: LM331 Web Page; ComponentLink2URL: http://www.national.com/pf/LM/LM331.html; ComponentLink3Description: N08E package page; ComponentLink3URL: http://www.national.com/packaging/folders/n08e.html
footprint N08E (DIP, 8-Leads, Row Spacing 7.62mm, Pitch 2.54mm, Body 9.91x6.35mm)
pins: 1 I OUT (out), 2 REF I (in), 3 FREQ OUT (oc), 4 GND (power), 5 R/C, 6 THR (in), 7 COMP IN (in), 8 VS (power)

## LM555CM
designator U?
Timer; PartNumber: LM555CM; Manufacturer: National Semiconductor; CompType: Analog IC; PackageTopMarking: NSZXTT*LM*555CM; PowerWise: N; Published: 4-Dec-2008; DatasheetVersion: Jul-2006; PackageVersion: revL, Sep-2006; PackageReference: M08A; Publisher: Altium Limited; PackageDescription: SOIC Narrow, 4.9 x 3.9 x 1.45mm, 8 Lead, 1.27mm Pitch; PinCount: 8; DigiKeyPartNumber: LM555CM-ND; Code_JEDEC: MS-012-AA; Code_IPC: SOIC127P600-8; ComponentLink1Description: LM555 Datasheet; ComponentLink1URL: http://www.national.com/ds.cgi/LM/LM555.pdf; ComponentLink2Description: LM555 Web Page; ComponentLink2URL: http://www.national.com/pf/LM/LM555.html; ComponentLink3Description: M08A package page; ComponentLink3URL: http://www.national.com/packaging/folders/m08a.html
footprint M08A_N (SOIC, 8-Leads, Body 4.9x3.9mm, Pitch 1.27mm, IPC Medium Density)
footprint M08A_L (SOIC, 8-Leads, Body 4.9x3.9mm, Pitch 1.27mm, IPC High Density)
footprint M08A_M (SOIC, 8-Leads, Body 4.9x3.9mm, Pitch 1.27mm, IPC Low Density)
pins: 1 GND (power), 2 TRIG (in), 3 OUT (out), 4 RST (in), 5 CVOLT, 6 THR (in), 7 DIS (oc), 8 +VCC (power)

## LM555CMM
designator U?
Timer; PartNumber: LM555CMM; Manufacturer: National Semiconductor; CompType: Analog IC; PackageTopMarking: ZXTT*Z55; PowerWise: N; Published: 4-Dec-2008; DatasheetVersion: Jul-2006; PackageVersion: revF, Apr-2008; PackageReference: MUA08A; Publisher: Altium Limited; PackageDescription: MINI SOIC, .118 x .118 x .034in, 8 Lead, .0256in Pitch; PinCount: 8; DigiKeyPartNumber: LM555CMMCT-ND; Code_JEDEC: MO-187-AA; ComponentLink1Description: LM555 Datasheet; ComponentLink1URL: http://www.national.com/ds.cgi/LM/LM555.pdf; ComponentLink2Description: LM555 Web Page; ComponentLink2URL: http://www.national.com/pf/LM/LM555.html; ComponentLink3Description: MUA08A package page; ComponentLink3URL: http://www.national.com/packaging/folders/mua08a.html
footprint MUA08A_N (TSOP, 8-Leads, Body 3x3mm, Pitch 0.65mm, IPC Medium Density)
footprint MUA08A_L (TSOP, 8-Leads, Body 3x3mm, Pitch 0.65mm, IPC High Density)
footprint MUA08A_M (TSOP, 8-Leads, Body 3x3mm, Pitch 0.65mm, IPC Low Density)
pins: 1 GND (power), 2 TRIG (in), 3 OUT (out), 4 RST (in), 5 CVOLT, 6 THR (in), 7 DIS (oc), 8 +VCC (power)

## LM555CMMX
designator U?
Timer; PartNumber: LM555CMMX; Manufacturer: National Semiconductor; CompType: Analog IC; PackageTopMarking: ZXTT*Z55; Published: 4-Dec-2008; DatasheetVersion: Jul-2006; PackageVersion: revF, Apr-2008; PackageReference: MUA08A; Publisher: Altium Limited; PackageDescription: MINI SOIC, .118 x .118 x .034in, 8 Lead, .0256in Pitch; PinCount: 8; DigiKeyPartNumber: LM555CMMX-ND; Code_JEDEC: MO-187-AA; ComponentLink1Description: LM555 Datasheet; ComponentLink1URL: http://www.national.com/ds.cgi/LM/LM555.pdf; ComponentLink2Description: LM555 Web Page; ComponentLink2URL: http://www.national.com/pf/LM/LM555.html; ComponentLink3Description: MUA08A package page; ComponentLink3URL: http://www.national.com/packaging/folders/mua08a.html
footprint MUA08A_N (TSOP, 8-Leads, Body 3x3mm, Pitch 0.65mm, IPC Medium Density)
footprint MUA08A_L (TSOP, 8-Leads, Body 3x3mm, Pitch 0.65mm, IPC High Density)
footprint MUA08A_M (TSOP, 8-Leads, Body 3x3mm, Pitch 0.65mm, IPC Low Density)
pins: 1 GND (power), 2 TRIG (in), 3 OUT (out), 4 RST (in), 5 CVOLT, 6 THR (in), 7 DIS (oc), 8 +VCC (power)

## LM555CMX
designator U?
Timer; PartNumber: LM555CMX; Manufacturer: National Semiconductor; CompType: Analog IC; PackageTopMarking: NSZXTT*LM*555CM; Published: 4-Dec-2008; DatasheetVersion: Jul-2006; PackageVersion: revL, Sep-2006; PackageReference: M08A; Publisher: Altium Limited; PackageDescription: SOIC Narrow, 4.9 x 3.9 x 1.45mm, 8 Lead, 1.27mm Pitch; PinCount: 8; DigiKeyPartNumber: LM555CMXCT-ND; Code_JEDEC: MS-012-AA; Code_IPC: SOIC127P600-8; ComponentLink1Description: LM555 Datasheet; ComponentLink1URL: http://www.national.com/ds.cgi/LM/LM555.pdf; ComponentLink2Description: LM555 Web Page; ComponentLink2URL: http://www.national.com/pf/LM/LM555.html; ComponentLink3Description: M08A package page; ComponentLink3URL: http://www.national.com/packaging/folders/m08a.html
footprint M08A_N (SOIC, 8-Leads, Body 4.9x3.9mm, Pitch 1.27mm, IPC Medium Density)
footprint M08A_L (SOIC, 8-Leads, Body 4.9x3.9mm, Pitch 1.27mm, IPC High Density)
footprint M08A_M (SOIC, 8-Leads, Body 4.9x3.9mm, Pitch 1.27mm, IPC Low Density)
pins: 1 GND (power), 2 TRIG (in), 3 OUT (out), 4 RST (in), 5 CVOLT, 6 THR (in), 7 DIS (oc), 8 +VCC (power)

## LM555CN
designator U?
Timer; PartNumber: LM555CN; Manufacturer: National Semiconductor; CompType: Analog IC; PackageTopMarking: NSUZXYTT*LM*555CN; PowerWise: N; Published: 4-Dec-2008; DatasheetVersion: Jul-2006; PackageVersion: revG, May-2006; PackageReference: N08E; Publisher: Altium Limited; PackageDescription: MDIP, .365 x .250 x .130in, 8 Lead, .100in Pitch; PinCount: 8; DigiKeyPartNumber: LM555CNNS-ND; Code_JEDEC: MS-001-BA; ComponentLink1Description: LM555 Datasheet; ComponentLink1URL: http://www.national.com/ds.cgi/LM/LM555.pdf; ComponentLink2Description: LM555 Web Page; ComponentLink2URL: http://www.national.com/pf/LM/LM555.html; ComponentLink3Description: N08E package page; ComponentLink3URL: http://www.national.com/packaging/folders/n08e.html
footprint N08E (DIP, 8-Leads, Row Spacing 7.62mm, Pitch 2.54mm, Body 9.91x6.35mm)
pins: 1 GND (power), 2 TRIG (in), 3 OUT (out), 4 RST (in), 5 CVOLT, 6 THR (in), 7 DIS (oc), 8 +VCC (power)

## LM555H/883
designator U?
Timer; PartNumber: LM555H/883; Manufacturer: National Semiconductor; CompType: Analog IC; PackageTopMarking: NSZSSXXYYA LM555H/883 Q; PowerWise: N; Published: 4-Dec-2008; DatasheetVersion: Jul-2006; PackageVersion: revF, Jun-1995; PackageReference: H08C; Publisher: Altium Limited; PackageDescription: Metal Can, TO-99, 8 Lead, .200 Dia., P.C.; PinCount: 8; Code_JEDEC: TO-99; ComponentLink1Description: LM555 Datasheet; ComponentLink1URL: http://www.national.com/ds.cgi/LM/LM555.pdf; ComponentLink2Description: LM555 Web Page; ComponentLink2URL: http://www.national.com/pf/LM/LM555.html; ComponentLink3Description: H08C package page; ComponentLink3URL: http://www.national.com/packaging/folders/h08c.html
footprint H08C (Can; 8 Leads; Pin Circle Dia. 5.08 mm; Lead Dia. 0.48 mm (max))
pins: 1 GND (power), 2 TRIG (in), 3 OUT (out), 4 RST (in), 5 CVOLT, 6 THR (in), 7 DIS (oc), 8 +VCC (power)

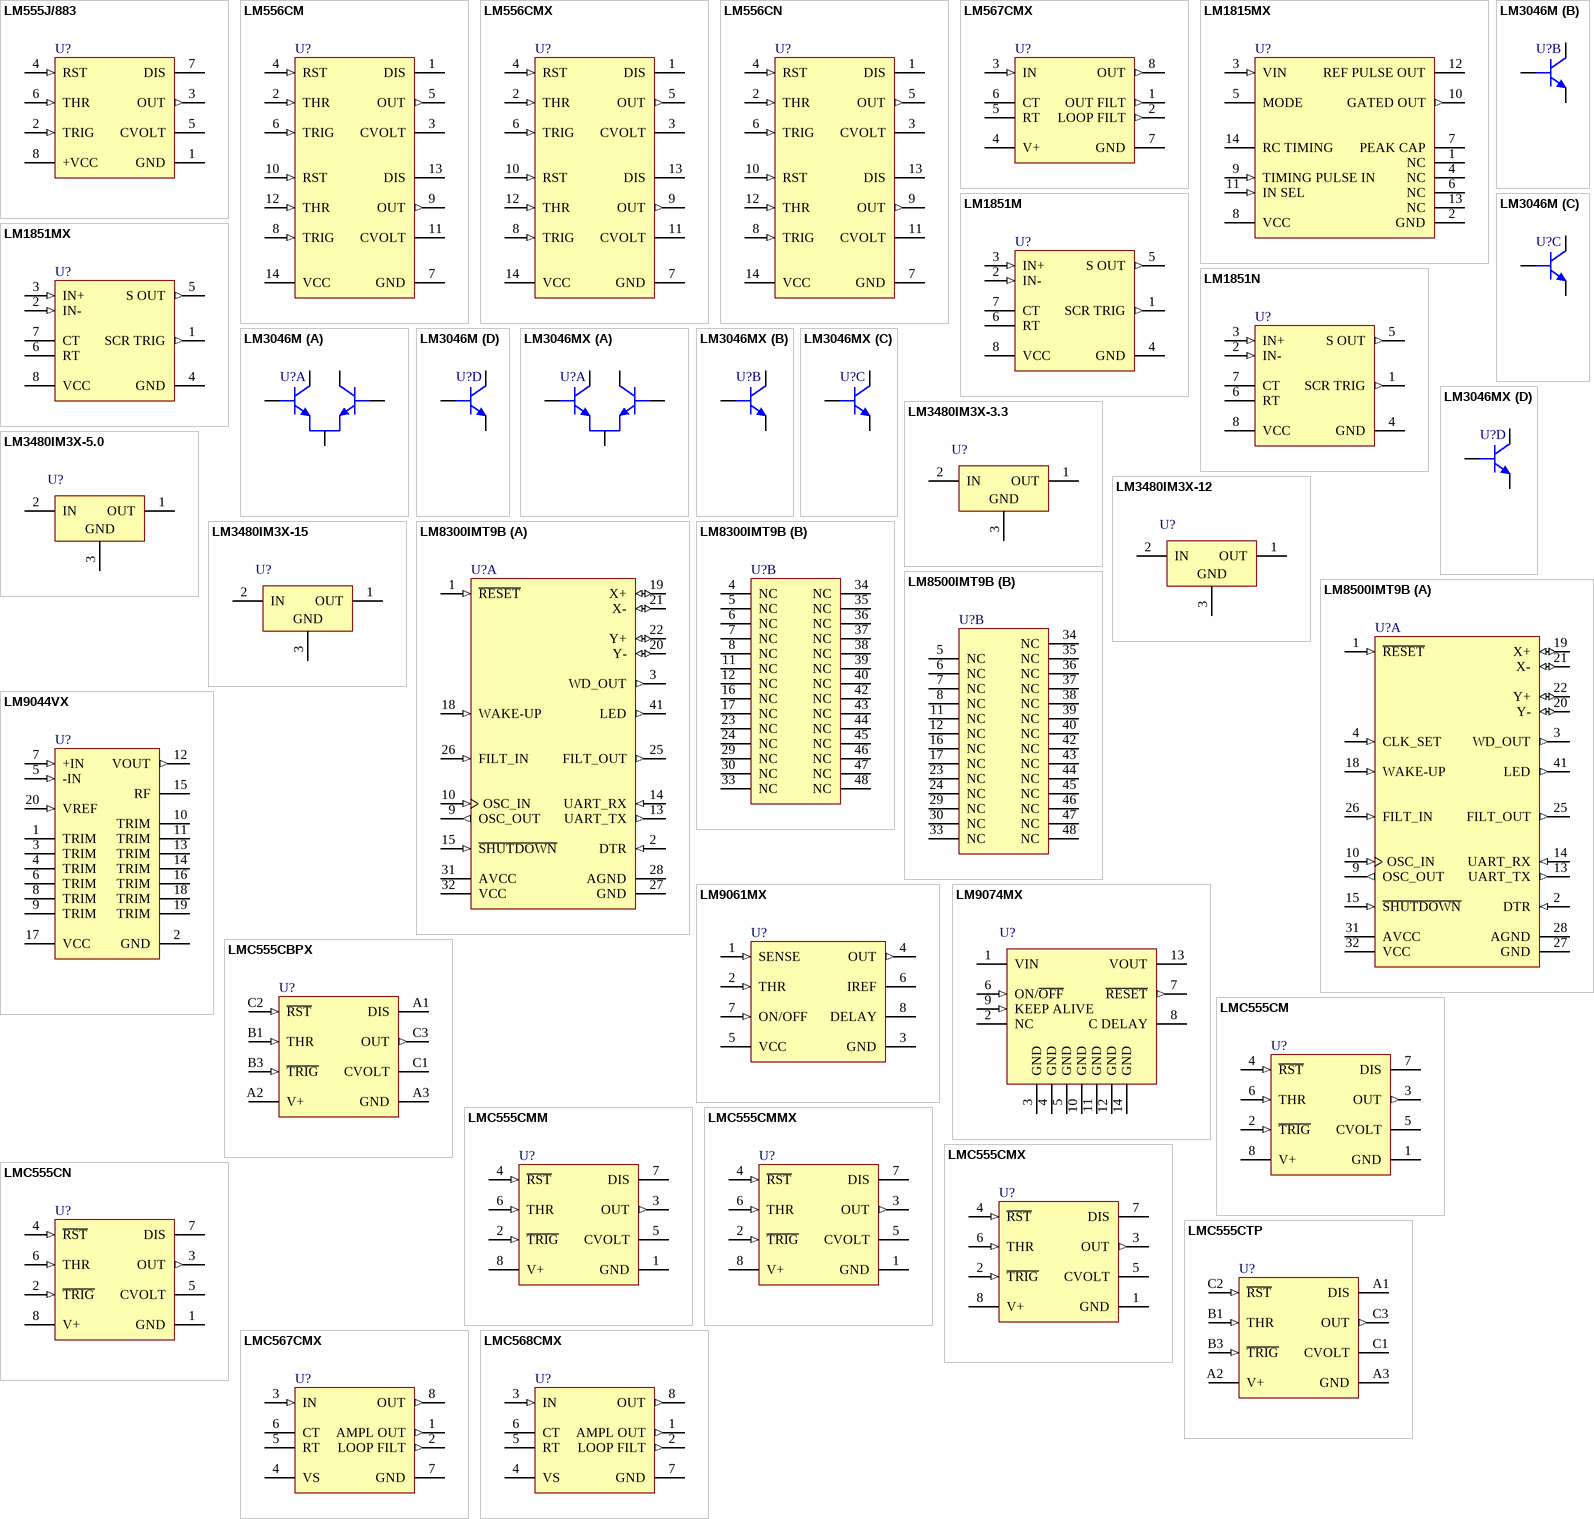
[diagram p4: symbols LM555J/883 to LMC568CMX]

## LM555J/883
designator U?
Timer; PartNumber: LM555J/883; Manufacturer: National Semiconductor; CompType: Analog IC; PackageTopMarking: NSZSSXXYYA*LM555J/*883 Q; PowerWise: N; Published: 4-Dec-2008; DatasheetVersion: Jul-2006; PackageVersion: revM, Jul-2002; PackageReference: J08A; Publisher: Altium Limited; PackageDescription: Cerdip, .400 x .310in Body, 8 Lead, .300in Centers, .100in Pitch; PinCount: 8; ComponentLink1Description: LM555 Datasheet; ComponentLink1URL: http://www.national.com/ds.cgi/LM/LM555.pdf; ComponentLink2Description: LM555 Web Page; ComponentLink2URL: http://www.national.com/pf/LM/LM555.html; ComponentLink3Description: J08A package page; ComponentLink3URL: http://www.national.com/packaging/folders/j08a.html
footprint J08A (DIP, 8-Leads, Row Spacing 7.62mm, Pitch 2.54mm, Body 9.78x6.73mm)
pins: 1 GND (power), 2 TRIG (in), 3 OUT (out), 4 RST (in), 5 CVOLT, 6 THR (in), 7 DIS (oc), 8 +VCC (power)

## LM556CM
designator U?
Dual Timer; PartNumber: LM556CM; Manufacturer: National Semiconductor; CompType: Analog IC; PackageTopMarking: NSUZXYTT*LM556CM; PowerWise: N; Published: 4-Dec-2008; DatasheetVersion: Mar-2000; PackageVersion: revJ, Jan-1996; PackageReference: M14A; Publisher: Altium Limited; PackageDescription: Molded Package S.O., .150in Wide, 14 Lead; PinCount: 14; DigiKeyPartNumber: LM556CM-ND; Code_JEDEC: MS-012AB; Code_IPC: SOIC127P600-14; ComponentLink1Description: LM556 Datasheet; ComponentLink1URL: http://www.national.com/ds.cgi/LM/LM556.pdf; ComponentLink2Description: LM556 Web Page; ComponentLink2URL: http://www.national.com/pf/LM/LM556.html; ComponentLink3Description: M14A package page; ComponentLink3URL: http://www.national.com/packaging/folders/m14a.html
footprint M14A_N (SOIC, 14-Leads, Body 8.6x3.9mm, Pitch 1.27mm, IPC Medium Density)
footprint M14A_L (SOIC, 14-Leads, Body 8.6x3.9mm, Pitch 1.27mm, IPC High Density)
footprint M14A_M (SOIC, 14-Leads, Body 8.6x3.9mm, Pitch 1.27mm, IPC Low Density)
pins: 1 DIS (oc), 2 THR (in), 3 CVOLT, 4 RST (in), 5 OUT (out), 6 TRIG (in), 7 GND (power), 8 TRIG (in), 9 OUT (out), 10 RST (in), 11 CVOLT, 12 THR (in), 13 DIS (oc), 14 VCC (power)

## LM556CMX
designator U?
Dual Timer; PartNumber: LM556CMX; Manufacturer: National Semiconductor; CompType: Analog IC; PackageTopMarking: NSUZXYTT*LM556CM; Published: 4-Dec-2008; DatasheetVersion: Mar-2000; PackageVersion: revJ, Jan-1996; PackageReference: M14A; Publisher: Altium Limited; PackageDescription: Molded Package S.O., .150in Wide, 14 Lead; PinCount: 14; DigiKeyPartNumber: LM556CMXCT-ND; Code_JEDEC: MS-012AB; Code_IPC: SOIC127P600-14; ComponentLink1Description: LM556 Datasheet; ComponentLink1URL: http://www.national.com/ds.cgi/LM/LM556.pdf; ComponentLink2Description: LM556 Web Page; ComponentLink2URL: http://www.national.com/pf/LM/LM556.html; ComponentLink3Description: M14A package page; ComponentLink3URL: http://www.national.com/packaging/folders/m14a.html
footprint M14A_N (SOIC, 14-Leads, Body 8.6x3.9mm, Pitch 1.27mm, IPC Medium Density)
footprint M14A_L (SOIC, 14-Leads, Body 8.6x3.9mm, Pitch 1.27mm, IPC High Density)
footprint M14A_M (SOIC, 14-Leads, Body 8.6x3.9mm, Pitch 1.27mm, IPC Low Density)
pins: 1 DIS (oc), 2 THR (in), 3 CVOLT, 4 RST (in), 5 OUT (out), 6 TRIG (in), 7 GND (power), 8 TRIG (in), 9 OUT (out), 10 RST (in), 11 CVOLT, 12 THR (in), 13 DIS (oc), 14 VCC (power)

## LM556CN
designator U?
Dual Timer; PartNumber: LM556CN; Manufacturer: National Semiconductor; CompType: Analog IC; PackageTopMarking: NSUZXYYTTE#*LM556CN; PowerWise: N; Published: 4-Dec-2008; DatasheetVersion: Mar-2000; PackageVersion: revG, May-2006; PackageReference: N14A; Publisher: Altium Limited; PackageDescription: MDIP, .750 x .250 x.130in, 14 Lead, .100in Pitch; PinCount: 14; DigiKeyPartNumber: LM556CN-ND; Code_JEDEC: MS-001-AA; ComponentLink1Description: LM556 Datasheet; ComponentLink1URL: http://www.national.com/ds.cgi/LM/LM556.pdf; ComponentLink2Description: LM556 Web Page; ComponentLink2URL: http://www.national.com/pf/LM/LM556.html; ComponentLink3Description: N14A package page; ComponentLink3URL: http://www.national.com/packaging/folders/n14a.html
footprint N14A (DIP, 14-Leads, Row Spacing 7.62mm, Pitch 2.54mm, Body 19.56x6.35mm)
pins: 1 DIS (oc), 2 THR (in), 3 CVOLT, 4 RST (in), 5 OUT (out), 6 TRIG (in), 7 GND (power), 8 TRIG (in), 9 OUT (out), 10 RST (in), 11 CVOLT, 12 THR (in), 13 DIS (oc), 14 VCC (power)

## LM567CMX
designator U?
Tone Decoder; PartNumber: LM567CMX; Manufacturer: National Semiconductor; CompType: Analog IC; PackageTopMarking: NSZXTT*LM*567CM; Published: 4-Dec-2008; DatasheetVersion: Feb-2003; PackageVersion: revL, Sep-2006; PackageReference: M08A; Publisher: Altium Limited; PackageDescription: SOIC Narrow, 4.9 x 3.9 x 1.45mm, 8 Lead, 1.27mm Pitch; PinCount: 8; DigiKeyPartNumber: LM567CMXTR-ND; Code_JEDEC: MS-012-AA; Code_IPC: SOIC127P600-8; ComponentLink1Description: LM567C Datasheet; ComponentLink1URL: http://www.national.com/ds.cgi/LM/LM567C.pdf; ComponentLink2Description: LM567C Web Page; ComponentLink2URL: http://www.national.com/pf/LM/LM567C.html; ComponentLink3Description: M08A package page; ComponentLink3URL: http://www.national.com/packaging/folders/m08a.html
footprint M08A_N (SOIC, 8-Leads, Body 4.9x3.9mm, Pitch 1.27mm, IPC Medium Density)
footprint M08A_L (SOIC, 8-Leads, Body 4.9x3.9mm, Pitch 1.27mm, IPC High Density)
footprint M08A_M (SOIC, 8-Leads, Body 4.9x3.9mm, Pitch 1.27mm, IPC Low Density)
pins: 1 OUT FILT (out), 2 LOOP FILT (out), 3 IN (in), 4 V+ (power), 5 RT, 6 CT, 7 GND (power), 8 OUT (out)

## LM1815MX
designator U?
Adaptive Variable Reluctance Sensor Amplifier; PartNumber: LM1815MX; Manufacturer: National Semiconductor; CompType: Analog IC; PackageTopMarking: NSUZXYTT*LM1815M; Published: 4-Dec-2008; DatasheetVersion: Mar-2005; PackageVersion: revJ, Jan-1996; PackageReference: M14A; Publisher: Altium Limited; PackageDescription: Molded Package S.O., .150in Wide, 14 Lead; PinCount: 14; DigiKeyPartNumber: LM1815MX-ND; Code_JEDEC: MS-012AB; Code_IPC: SOIC127P600-14; ComponentLink1Description: LM1815 Datasheet; ComponentLink1URL: http://www.national.com/ds.cgi/LM/LM1815.pdf; ComponentLink2Description: LM1815 Web Page; ComponentLink2URL: http://www.national.com/pf/LM/LM1815.html; ComponentLink3Description: M14A package page; ComponentLink3URL: http://www.national.com/packaging/folders/m14a.html
footprint M14A_N (SOIC, 14-Leads, Body 8.6x3.9mm, Pitch 1.27mm, IPC Medium Density)
footprint M14A_L (SOIC, 14-Leads, Body 8.6x3.9mm, Pitch 1.27mm, IPC High Density)
footprint M14A_M (SOIC, 14-Leads, Body 8.6x3.9mm, Pitch 1.27mm, IPC Low Density)
pins: 1 NC, 2 GND (power), 3 VIN (in), 4 NC, 5 MODE, 6 NC, 7 PEAK CAP, 8 VCC (power), 9 TIMING PULSE IN (in), 10 GATED OUT (out), 11 IN SEL (in), 12 REF PULSE OUT (oc), 13 NC, 14 RC TIMING

## LM1851M
designator U?
Ground Fault Interrupter; PartNumber: LM1851M; Manufacturer: National Semiconductor; CompType: Analog IC; PackageTopMarking: NSZXTT*LM*1851M; PowerWise: N; Published: 4-Dec-2008; DatasheetVersion: Jun-1992; PackageVersion: revL, Sep-2006; PackageReference: M08A; Publisher: Altium Limited; PackageDescription: SOIC Narrow, 4.9 x 3.9 x 1.45mm, 8 Lead, 1.27mm Pitch; PinCount: 8; DigiKeyPartNumber: LM1851M-ND; Code_JEDEC: MS-012-AA; Code_IPC: SOIC127P600-8; ComponentLink1Description: LM1851 Datasheet; ComponentLink1URL: http://www.national.com/ds.cgi/LM/LM1851.pdf; ComponentLink2Description: LM1851 Web Page; ComponentLink2URL: http://www.national.com/pf/LM/LM1851.html; ComponentLink3Description: M08A package page; ComponentLink3URL: http://www.national.com/packaging/folders/m08a.html
footprint M08A_N (SOIC, 8-Leads, Body 4.9x3.9mm, Pitch 1.27mm, IPC Medium Density)
footprint M08A_L (SOIC, 8-Leads, Body 4.9x3.9mm, Pitch 1.27mm, IPC High Density)
footprint M08A_M (SOIC, 8-Leads, Body 4.9x3.9mm, Pitch 1.27mm, IPC Low Density)
pins: 1 SCR TRIG (out), 2 IN- (in), 3 IN+ (in), 4 GND (power), 5 S OUT (out), 6 RT, 7 CT, 8 VCC (power)

## LM1851MX
designator U?
Ground Fault Interrupter; PartNumber: LM1851MX; Manufacturer: National Semiconductor; CompType: Analog IC; PackageTopMarking: NSZXTT*LM*1851M; Published: 4-Dec-2008; DatasheetVersion: Jun-1992; PackageVersion: revL, Sep-2006; PackageReference: M08A; Publisher: Altium Limited; PackageDescription: SOIC Narrow, 4.9 x 3.9 x 1.45mm, 8 Lead, 1.27mm Pitch; PinCount: 8; DigiKeyPartNumber: LM1851MX-ND; Code_JEDEC: MS-012-AA; Code_IPC: SOIC127P600-8; ComponentLink1Description: LM1851 Datasheet; ComponentLink1URL: http://www.national.com/ds.cgi/LM/LM1851.pdf; ComponentLink2Description: LM1851 Web Page; ComponentLink2URL: http://www.national.com/pf/LM/LM1851.html; ComponentLink3Description: M08A package page; ComponentLink3URL: http://www.national.com/packaging/folders/m08a.html
footprint M08A_N (SOIC, 8-Leads, Body 4.9x3.9mm, Pitch 1.27mm, IPC Medium Density)
footprint M08A_L (SOIC, 8-Leads, Body 4.9x3.9mm, Pitch 1.27mm, IPC High Density)
footprint M08A_M (SOIC, 8-Leads, Body 4.9x3.9mm, Pitch 1.27mm, IPC Low Density)
pins: 1 SCR TRIG (out), 2 IN- (in), 3 IN+ (in), 4 GND (power), 5 S OUT (out), 6 RT, 7 CT, 8 VCC (power)

## LM1851N
designator U?
Ground Fault Interrupter; PartNumber: LM1851N; Manufacturer: National Semiconductor; CompType: Analog IC; PackageTopMarking: NSUZXYTT*LM*1851N; PowerWise: N; Published: 4-Dec-2008; DatasheetVersion: Jun-1992; PackageVersion: revG, May-2006; PackageReference: N08E; Publisher: Altium Limited; PackageDescription: MDIP, .365 x .250 x .130in, 8 Lead, .100in Pitch; PinCount: 8; DigiKeyPartNumber: LM1851N-ND; Code_JEDEC: MS-001-BA; ComponentLink1Description: LM1851 Datasheet; ComponentLink1URL: http://www.national.com/ds.cgi/LM/LM1851.pdf; ComponentLink2Description: LM1851 Web Page; ComponentLink2URL: http://www.national.com/pf/LM/LM1851.html; ComponentLink3Description: N08E package page; ComponentLink3URL: http://www.national.com/packaging/folders/n08e.html
footprint N08E (DIP, 8-Leads, Row Spacing 7.62mm, Pitch 2.54mm, Body 9.91x6.35mm)
pins: 1 SCR TRIG (out), 2 IN- (in), 3 IN+ (in), 4 GND (power), 5 S OUT (out), 6 RT, 7 CT, 8 VCC (power)

## LM3046M
designator U?
Transistor Array; PartNumber: LM3046M; Manufacturer: National Semiconductor; CompType: Analog IC; PackageTopMarking: NSUZXYTT*LM3046M; PowerWise: N; Published: 4-Dec-2008; DatasheetVersion: Jul-1999; PackageVersion: revJ, Jan-1996; PackageReference: M14A; Publisher: Altium Limited; PackageDescription: Molded Package S.O., .150in Wide, 14 Lead; PinCount: 14; DigiKeyPartNumber: LM3046M-ND; Code_JEDEC: MS-012AB; Code_IPC: SOIC127P600-14; ComponentLink1Description: LM3046 Datasheet; ComponentLink1URL: http://www.national.com/ds.cgi/LM/LM3046.pdf; ComponentLink2Description: LM3046 Web Page; ComponentLink2URL: http://www.national.com/pf/LM/LM3046.html; ComponentLink3Description: M14A package page; ComponentLink3URL: http://www.national.com/packaging/folders/m14a.html
footprint M14A_N (SOIC, 14-Leads, Body 8.6x3.9mm, Pitch 1.27mm, IPC Medium Density)
footprint M14A_L (SOIC, 14-Leads, Body 8.6x3.9mm, Pitch 1.27mm, IPC High Density)
footprint M14A_M (SOIC, 14-Leads, Body 8.6x3.9mm, Pitch 1.27mm, IPC Low Density)
part A pins: 1 C1, 2 B1, 3 E1_2, 4 B2, 5 C2
part B pins: 6 B3, 7 E3, 8 C3
part C pins: 9 B4, 10 E4, 11 C4
part D pins: 12 B5, 13 E5, 14 C5

## LM3046MX
designator U?
Transistor Array; PartNumber: LM3046MX; Manufacturer: National Semiconductor; CompType: Analog IC; PackageTopMarking: NSUZXYTT*LM3046M; Published: 4-Dec-2008; DatasheetVersion: Jul-1999; PackageVersion: revJ, Jan-1996; PackageReference: M14A; Publisher: Altium Limited; PackageDescription: Molded Package S.O., .150in Wide, 14 Lead; PinCount: 14; DigiKeyPartNumber: LM3046MX-ND; Code_JEDEC: MS-012AB; Code_IPC: SOIC127P600-14; ComponentLink1Description: LM3046 Datasheet; ComponentLink1URL: http://www.national.com/ds.cgi/LM/LM3046.pdf; ComponentLink2Description: LM3046 Web Page; ComponentLink2URL: http://www.national.com/pf/LM/LM3046.html; ComponentLink3Description: M14A package page; ComponentLink3URL: http://www.national.com/packaging/folders/m14a.html
footprint M14A_N (SOIC, 14-Leads, Body 8.6x3.9mm, Pitch 1.27mm, IPC Medium Density)
footprint M14A_L (SOIC, 14-Leads, Body 8.6x3.9mm, Pitch 1.27mm, IPC High Density)
footprint M14A_M (SOIC, 14-Leads, Body 8.6x3.9mm, Pitch 1.27mm, IPC Low Density)
part A pins: 1 C1, 2 B1, 3 E1_2, 4 B2, 5 C2
part B pins: 6 B3, 7 E3, 8 C3
part C pins: 9 B4, 10 E4, 11 C4
part D pins: 12 B5, 13 E5, 14 C5